# Altium schematic symbol library SCH - MCU - ATMEGA - MICROCHIP AVR64DD32 QFN32.SchLib: 1 symbol
Pins are listed as number, name and electrical type; pins without a type are passive.

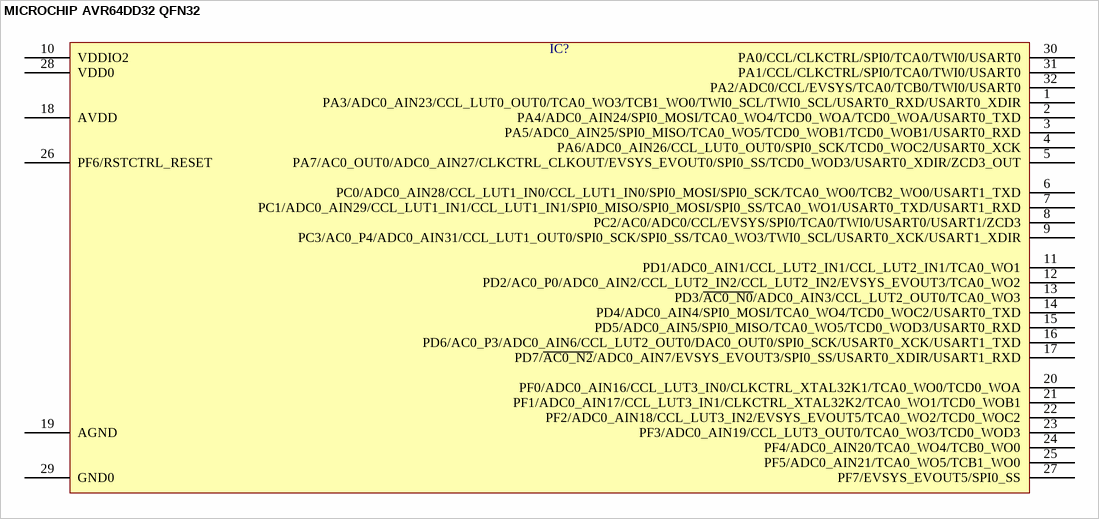
[diagram p0: symbol MICROCHIP AVR64DD32 QFN32]

## MICROCHIP AVR64DD32 QFN32
designator IC?  (value not drawn)
pins: 1 PA3/ADC0_AIN23/CCL_LUT0_OUT0/TCA0_WO3/TCB1_WO0/TWI0_SCL/TWI0_SCL/USART0_RXD/USART0_XDIR, 2 PA4/ADC0_AIN24/SPI0_MOSI/TCA0_WO4/TCD0_WOA/TCD0_WOA/USART0_TXD, 3 PA5/ADC0_AIN25/SPI0_MISO/TCA0_WO5/TCD0_WOB1/TCD0_WOB1/USART0_RXD, 4 PA6/ADC0_AIN26/CCL_LUT0_OUT0/SPI0_SCK/TCD0_WOC2/USART0_XCK, 5 PA7/AC0_OUT0/ADC0_AIN27/CLKCTRL_CLKOUT/EVSYS_EVOUT0/SPI0_SS/TCD0_WOD3/USART0_XDIR/ZCD3_OUT, 6 PC0/ADC0_AIN28/CCL_LUT1_IN0/CCL_LUT1_IN0/SPI0_MOSI/SPI0_SCK/TCA0_WO0/TCB2_WO0/USART1_TXD, 7 PC1/ADC0_AIN29/CCL_LUT1_IN1/CCL_LUT1_IN1/SPI0_MISO/SPI0_MOSI/SPI0_SS/TCA0_WO1/USART0_TXD/USART1_RXD, 8 PC2/AC0/ADC0/CCL/EVSYS/SPI0/TCA0/TWI0/USART0/USART1/ZCD3, 9 PC3/AC0_P4/ADC0_AIN31/CCL_LUT1_OUT0/SPI0_SCK/SPI0_SS/TCA0_WO3/TWI0_SCL/USART0_XCK/USART1_XDIR, 10 VDDIO2, 11 PD1/ADC0_AIN1/CCL_LUT2_IN1/CCL_LUT2_IN1/TCA0_WO1, 12 PD2/AC0_P0/ADC0_AIN2/CCL_LUT2_IN2/CCL_LUT2_IN2/EVSYS_EVOUT3/TCA0_WO2, 13 PD3/~{AC0_N0}/ADC0_AIN3/CCL_LUT2_OUT0/TCA0_WO3, 14 PD4/ADC0_AIN4/SPI0_MOSI/TCA0_WO4/TCD0_WOC2/USART0_TXD, 15 PD5/ADC0_AIN5/SPI0_MISO/TCA0_WO5/TCD0_WOD3/USART0_RXD, 16 PD6/AC0_P3/ADC0_AIN6/CCL_LUT2_OUT0/DAC0_OUT0/SPI0_SCK/USART0_XCK/USART1_TXD, 17 PD7/~{AC0_N2}/ADC0_AIN7/EVSYS_EVOUT3/SPI0_SS/USART0_XDIR/USART1_RXD, 18 AVDD, 19 AGND, 20 PF0/ADC0_AIN16/CCL_LUT3_IN0/CLKCTRL_XTAL32K1/TCA0_WO0/TCD0_WOA, 21 PF1/ADC0_AIN17/CCL_LUT3_IN1/CLKCTRL_XTAL32K2/TCA0_WO1/TCD0_WOB1, 22 PF2/ADC0_AIN18/CCL_LUT3_IN2/EVSYS_EVOUT5/TCA0_WO2/TCD0_WOC2, 23 PF3/ADC0_AIN19/CCL_LUT3_OUT0/TCA0_WO3/TCD0_WOD3, 24 PF4/ADC0_AIN20/TCA0_WO4/TCB0_WO0, 25 PF5/ADC0_AIN21/TCA0_WO5/TCB1_WO0, 26 PF6/RSTCTRL_RESET, 27 PF7/EVSYS_EVOUT5/SPI0_SS, 28 VDD0, 29 GND0, 30 PA0/CCL/CLKCTRL/SPI0/TCA0/TWI0/USART0, 31 PA1/CCL/CLKCTRL/SPI0/TCA0/TWI0/USART0, 32 PA2/ADC0/CCL/EVSYS/TCA0/TCB0/TWI0/USART0